# Altium schematic symbol library 1803455.SchLib: 1 symbol
Pins are listed as number, name and electrical type; pins without a type are passive.

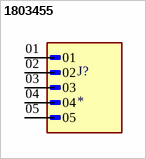
[diagram p0: symbol 1803455]

## 1803455
designator J?
Pluggable Header 3.81mm 16AWG 160V 8A 5 Position COMBICON MCV Series | Phoenix Contact 1803455; SnapEDA_Link: https://www.snapeda.com/parts/1803455/Phoenix+Contact/view-part/?ref=snap; Package: None; Value: *; MF: Phoenix Contact; MP: 1803455; Check_prices: https://www.snapeda.com/parts/1803455/Phoenix+Contact/view-part/?ref=eda
footprint PHOENIX_1803455
pins: 01, 02, 03, 04, 05